# EAGLE library part JP5QE (library New Stuff)
JUMPER
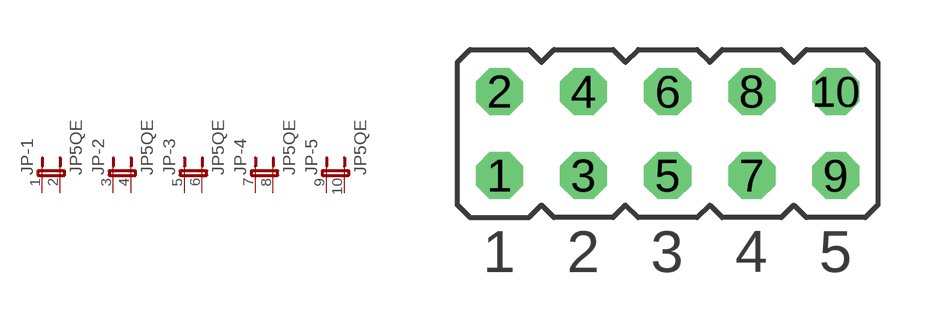
[diagram p2: symbol with the pads of JP5Q; footprint JP5Q]

Designator prefix JP; gates -1=JP2E -2=JP2E -3=JP2E -4=JP2E -5=JP2E

## JP5QE  [JP5Q]
1  -1:1  pas
2  -1:2  pas
3  -2:1  pas
4  -2:2  pas
5  -3:1  pas
6  -3:2  pas
7  -4:1  pas
8  -4:2  pas
9  -5:1  pas
10  -5:2  pas

## Footprint JP5Q (pad centres in mm)
JUMPER
drill 0.914 octagon: 1 -5.08,-1.27; 2 -5.08,1.27; 3 -2.54,-1.27; 4 -2.54,1.27; 5 0,-1.27; 6 0,1.27; 7 2.54,-1.27; 8 2.54,1.27; 9 5.08,-1.27; 10 5.08,1.27